# EAGLE library part IRF9358 (library infineon)
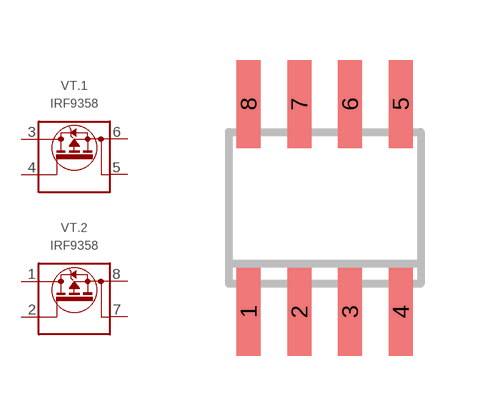
[diagram p8: symbol with the pads of SOIC8; footprint SOIC8]

Designator prefix VT; gates .1=P-MOSFET_8PIN .2=P-MOSFET_8PIN

## IRF9358TRPBF  [SOIC8]
1  .2:S  pas
2  .2:G  pas
3  .1:S  pas
4  .1:G  pas
5  .1:D  pas
6  .1:D  pas
7  .2:D  pas
8  .2:D  pas

## IRF9358PBF  [SOIC8]
Pads as for SOIC8

## Footprint SOIC8 (pad centres in mm)
Small Outline IC
smd 0.6 x 2.2: 1 -1.905,-2.6; 2 -0.635,-2.6; 3 0.635,-2.6; 4 1.905,-2.6; 5 1.905,2.6; 6 0.635,2.6; 7 -0.635,2.6; 8 -1.905,2.6